# EAGLE library part DS2438 (library custom)
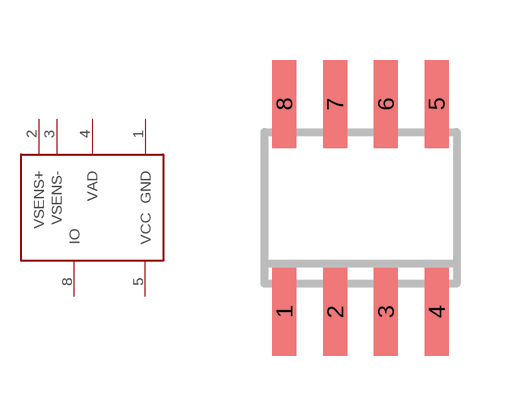
[diagram p6: symbol with the pads of SO-08; footprint SO-08]

Designator prefix -

## DS2438  [SO-08]
1  GND
2  VSENS+
3  VSENS-
4  VAD
5  VCC
8  IO

## Footprint SO-08 (pad centres in mm)
Small Outline Narrow Plastic Gull Wing 150-mil body, package type SN
smd 0.6 x 2.2: 1 -1.905,-2.6; 2 -0.635,-2.6; 3 0.635,-2.6; 4 1.905,-2.6; 5 1.905,2.6; 6 0.635,2.6; 7 -0.635,2.6; 8 -1.905,2.6